# Altium schematic symbol library MAGIsBoard.SchLib: 3 symbols
Pins are listed as number, name and electrical type; pins without a type are passive.

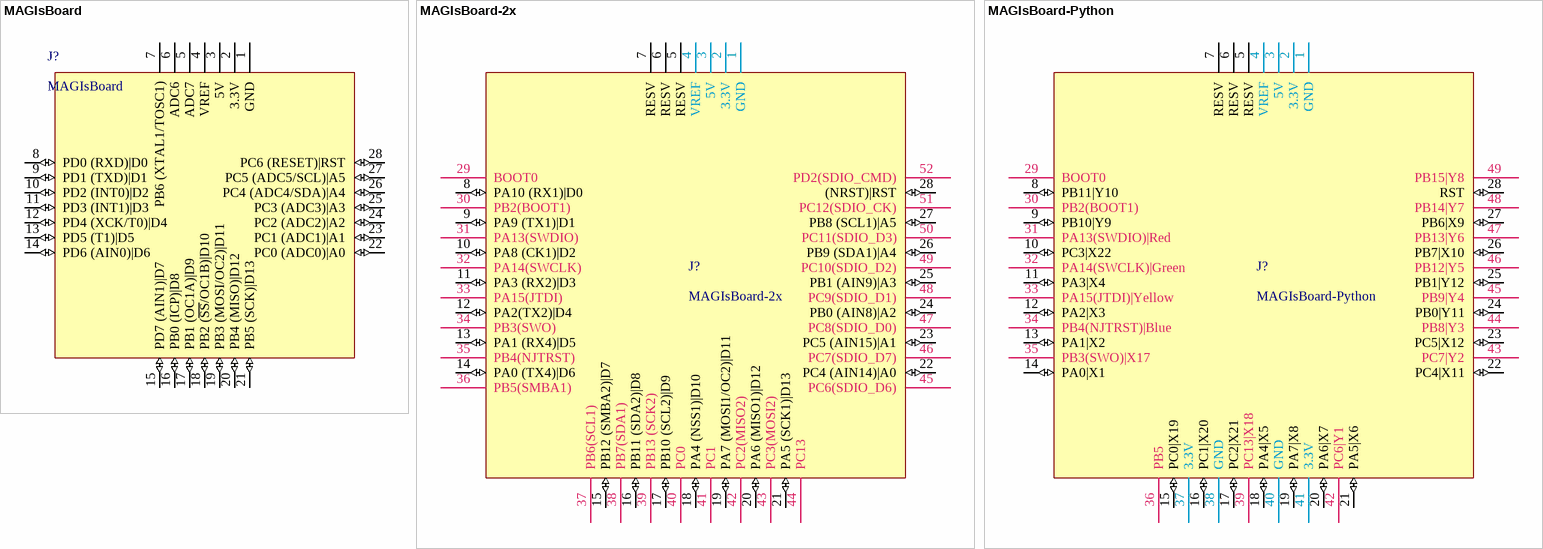
[diagram p0: symbols MAGIsBoard to MAGIsBoard-Python]

## MAGIsBoard
designator J?
footprint MAGIsBoard
pins: 1 GND (power), 2 3.3V (power), 3 5V (power), 4 VREF, 5 ADC7, 6 ADC6, 7 PB6 (XTAL1/TOSC1), 8 PD0 (RXD)|D0 (io), 9 PD1 (TXD)|D1 (io), 10 PD2 (INT0)|D2 (io), 11 PD3 (INT1)|D3 (io), 12 PD4 (XCK/T0)|D4 (io), 13 PD5 (T1)|D5 (io), 14 PD6 (AIN0)|D6 (io), 15 PD7 (AIN1)|D7 (io), 16 PB0 (ICP)|D8 (io), 17 PB1 (OC1A)|D9 (io), 18 PB2 (~{SS}/OC1B)|D10 (io), 19 PB3 (MOSI/OC2)|D11 (io), 20 PB4 (MISO)|D12 (io), 21 PB5 (SCK)|D13 (io), 22 PC0 (ADC0)|A0 (io), 23 PC1 (ADC1)|A1 (io), 24 PC2 (ADC2)|A2 (io), 25 PC3 (ADC3)|A3 (io), 26 PC4 (ADC4/SDA)|A4 (io), 27 PC5 (ADC5/SCL)|A5 (io), 28 PC6 (RESET)|RST (io)

## MAGIsBoard-2x
designator J?
footprint MAGIsBoard-2x
pins: 1 GND (power), 2 3.3V (power), 3 5V (power), 4 VREF, 5 RESV, 6 RESV, 7 RESV, 8 PA10 (RX1)|D0 (io), 9 PA9 (TX1)|D1 (io), 10 PA8 (CK1)|D2 (io), 11 PA3 (RX2)|D3 (io), 12 PA2(TX2)|D4 (io), 13 PA1 (RX4)|D5 (io), 14 PA0 (TX4)|D6 (io), 15 PB12 (SMBA2)|D7 (io), 16 PB11 (SDA2)|D8 (io), 17 PB10 (SCL2)|D9 (io), 18 PA4 (NSS1)|D10 (io), 19 PA7 (MOSI1/OC2)|D11 (io), 20 PA6 (MISO1)|D12 (io), 21 PA5 (SCK1)|D13 (io), 22 PC4 (AIN14)|A0 (io), 23 PC5 (AIN15)|A1 (io), 24 PB0 (AIN8)|A2 (io), 25 PB1 (AIN9)|A3 (io), 26 PB9 (SDA1)|A4 (io), 27 PB8 (SCL1)|A5 (io), 28  (NRST)|RST (io), 29 BOOT0, 30 PB2(BOOT1), 31 PA13(SWDIO), 32 PA14(SWCLK), 33 PA15(JTDI), 34 PB3(SWO), 35 PB4(NJTRST), 36 PB5(SMBA1), 37 PB6(SCL1), 38 PB7(SDA1), 39 PB13 (SCK2), 40 PC0, 41 PC1, 42 PC2(MISO2), 43 PC3(MOSI2), 44 PC13, 45 PC6(SDIO_D6), 46 PC7(SDIO_D7), 47 PC8(SDIO_D0), 48 PC9(SDIO_D1), 49 PC10(SDIO_D2), 50 PC11(SDIO_D3), 51 PC12(SDIO_CK), 52 PD2(SDIO_CMD)

## MAGIsBoard-Python
designator J?
footprint MAGIsBoard-Python
pins: 1 GND (power), 2 3.3V (power), 3 5V (power), 4 VREF, 5 RESV, 6 RESV, 7 RESV, 8 PB11|Y10 (io), 9 PB10|Y9 (io), 10 PC3|X22 (io), 11 PA3|X4 (io), 12 PA2|X3 (io), 13 PA1|X2 (io), 14 PA0|X1 (io), 15 PC0|X19 (io), 16 PC1|X20 (io), 17 PC2|X21 (io), 18 PA4|X5 (io), 19 PA7|X8 (io), 20 PA6|X7 (io), 21 PA5|X6 (io), 22 PC4|X11 (io), 23 PC5|X12 (io), 24 PB0|Y11 (io), 25 PB1|Y12 (io), 26 PB7|X10 (io), 27 PB6|X9 (io), 28 RST (io), 29 BOOT0, 30 PB2(BOOT1), 31 PA13(SWDIO)|Red, 32 PA14(SWCLK)|Green, 33 PA15(JTDI)|Yellow, 34 PB4(NJTRST)|Blue, 35 PB3(SWO)|X17, 36 PB5, 37 3.3V, 38 GND, 39 PC13|X18, 40 GND, 41 3.3V, 42 PC6|Y1, 43 PC7|Y2, 44 PB8|Y3, 45 PB9|Y4, 46 PB12|Y5, 47 PB13|Y6, 48 PB14|Y7, 49 PB15|Y8